# Altium footprint library ESP32-S3-N16R8.PcbLib: 2 footprints
Each footprint in its own frame and in the unit in brackets; x right, y up, seen from the top. Pads: shape width x height; smd on the part's side, far side on the other; paste and mask are expansions set on the pad; w line width, h text height; cw(c..) or ccw(c..) is an arc to the next point about the centre after c.
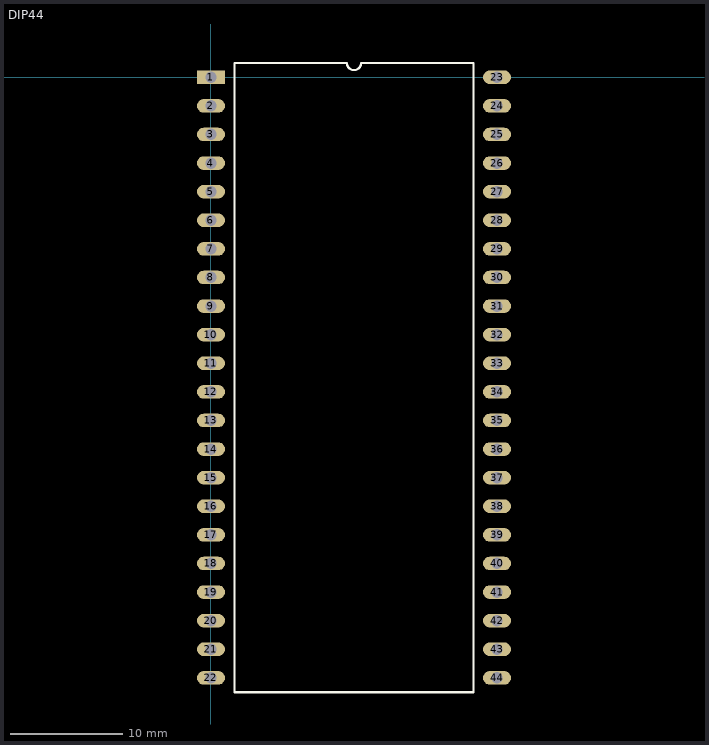
[diagram p0: the footprints below, top view; thin cyan lines are the x and y axes]

## DIP44 [mm]
pads (44):
  rect 2.5x1.2 hole 1.02: 1(0,0)
  oval 2.5x1.2 hole 1.02: 2(0,-2.54) 3(0,-5.08) 4(0,-7.62) 5(0,-10.16) 6(0,-12.7) 7(0,-15.24) 8(0,-17.78) 9(0,-20.32) 10(0,-22.86) 11(0,-25.4) 12(0,-27.94) 13(0,-30.48) 14(0,-33.02) 15(0,-35.56) 16(0,-38.1) 17(0,-40.64) 18(0,-43.18) 19(0,-45.72) 20(0,-48.26) 21(0,-50.8) 22(0,-53.34) 23(25.4,0) 24(25.4,-2.54) 25(25.4,-5.08) 26(25.4,-7.62) 27(25.4,-10.16) 28(25.4,-12.7) 29(25.4,-15.24) 30(25.4,-17.78) 31(25.4,-20.32) 32(25.4,-22.86) 33(25.4,-25.4) 34(25.4,-27.94) 35(25.4,-30.48) 36(25.4,-33.02) 37(25.4,-35.56) 38(25.4,-38.1) 39(25.4,-40.64) 40(25.4,-43.18) 41(25.4,-45.72) 42(25.4,-48.26) 43(25.4,-50.8) 44(25.4,-53.34)
Top Overlay:
  lines w0.2: 2.085,-54.61 23.315,-54.61 23.315,1.27 13.335,1.27 cw(c12.7,1.27) 12.065,1.27 2.085,1.27 2.085,-54.61
3D body "ESP32-S3-WROOM-1_NEW.STEP": height 12.25, standoff -0.61, extent -1.524,-61.231 26.416,2.159

## PCBComponent_1 [mm]